# Altium schematic symbol library Schlib1.SchLib: 6 symbols
Pins are listed as number, name and electrical type; pins without a type are passive.

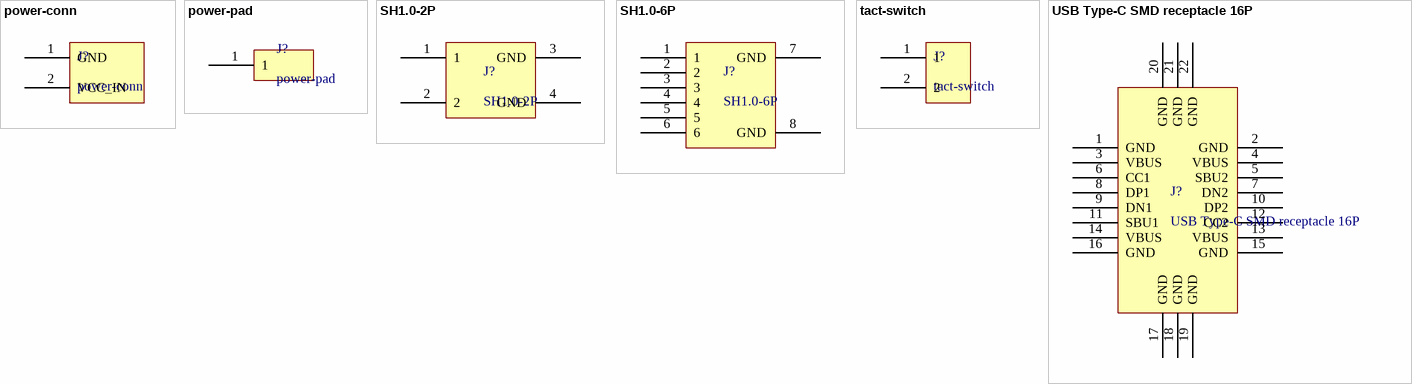
[diagram p0: symbols power-conn to USB Type-C SMD receptacle 16P]

## power-conn
designator J?
footprint power-conn
pins: 1 GND, 2 VCC_IN

## power-pad
designator J?
footprint power-pad
pins: 1

## SH1.0-2P
designator J?
footprint SH1.0-2P
pins: 1, 2, 3 GND, 4 GND

## SH1.0-6P
designator J?
footprint SH1.0-6P
pins: 1, 2, 3, 4, 5, 6, 7 GND, 8 GND

## tact-switch
designator J?
footprint tact-switch
pins: 1, 2

## USB Type-C SMD receptacle 16P
designator J?
footprint USB Type-C SMD receptacle 16P
pins: 1 GND, 2 GND, 3 VBUS, 4 VBUS, 5 SBU2, 6 CC1, 7 DN2, 8 DP1, 9 DN1, 10 DP2, 11 SBU1, 12 CC2, 13 VBUS, 14 VBUS, 15 GND, 16 GND, 17 GND, 18 GND, 19 GND, 20 GND, 21 GND, 22 GND